# Altium schematic symbol library MT3608_MODULE.SchLib: 1 symbol
Pins are listed as number, name and electrical type; pins without a type are passive.

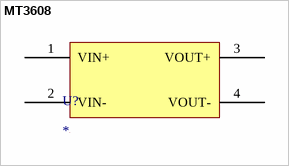
[diagram p0: symbol MT3608]

## MT3608
designator U?
pins: 1 VIN+, 2 VIN-, 3 VOUT+, 4 VOUT-